# EAGLE library part OPENCM9.04 (library OpenCM 9.04)
Device for representing an OpenCM 9.04 Microcontroller board based on 32bit ARM Cortex-M3 in an EAGLE schematic. Created by Dony Setiawan NIM3.32.18.1.08
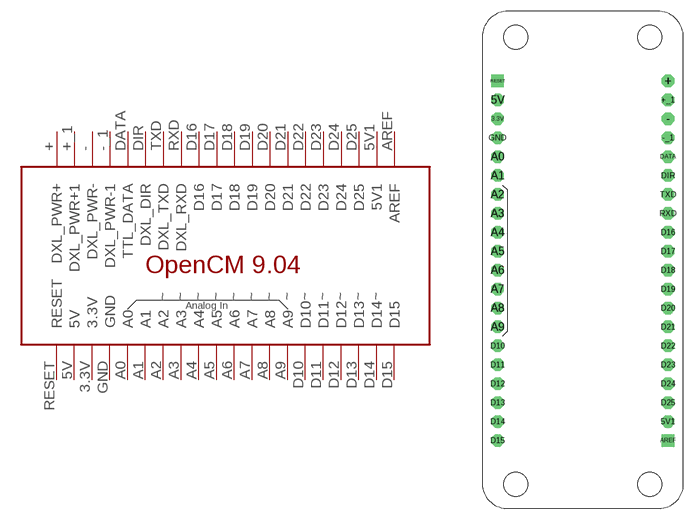
[diagram p0: symbol with the pads of OPENCM9.04; footprint OPENCM9.04]

Designator prefix -

## OPENCM9.04  [OPENCM9.04]
3.3V  3.3V
5V  5V
5V1  5V1
+  DXL_PWR+
+_1  DXL_PWR+1
-  DXL_PWR-
-_1  DXL_PWR-1
A0  A0
A1  A1
A2  A2
A3  A3
A4  A4
A5  A5
A6  A6
A7  A7
A8  A8
A9  A9
AREF  AREF
D10  D10
D11  D11
D12  D12
D13  D13
D14  D14
D15  D15
D16  D16
D17  D17
D18  D18
D19  D19
D20  D20
D21  D21
D22  D22
D23  D23
D24  D24
D25  D25
DATA  TTL_DATA
DIR  DXL_DIR
GND  GND
RESET  RESET
RXD  DXL_RXD
TXD  DXL_TXD

## Footprint OPENCM9.04 (pad centres in mm)
Footprint for representing an OpenCM 9.04 board in an EAGLE schematic. Created by Dony Setiawan NIM3.32.18.1.08
drill 0.8 pad 1.676 octagon: 3.3V -11.43,19.05; 5V -11.43,21.59; 5V1 11.43,-21.59; + 11.43,24.13; +_1 11.43,21.59; - 11.43,19.05; -_1 11.43,16.51; A0 -11.43,13.97; A1 -11.43,11.43; A2 -11.43,8.89; A3 -11.43,6.35; A4 -11.43,3.81; A5 -11.43,1.27; A6 -11.43,-1.27; A7 -11.43,-3.81; A8 -11.43,-6.35; A9 -11.43,-8.89; D10 -11.43,-11.43; D11 -11.43,-13.97; D12 -11.43,-16.51; D13 -11.43,-19.05; D14 -11.43,-21.59; D15 -11.43,-24.13; D16 11.43,3.81; D17 11.43,1.27; D18 11.43,-1.27; D19 11.43,-3.81; D20 11.43,-6.35; D21 11.43,-8.89; D22 11.43,-11.43; D23 11.43,-13.97; D24 11.43,-16.51; D25 11.43,-19.05; DATA 11.43,13.97; DIR 11.43,11.43; GND -11.43,16.51; RXD 11.43,6.35; TXD 11.43,8.89
drill 0.8 pad 1.676 square: AREF 11.43,-24.13; RESET -11.43,24.13
hole 3.2 at -9,-30
hole 3.2 at 9,-30
hole 3.2 at -9,30
hole 3.2 at 9,30